# Altium schematic symbol library Schlib1.SchLib: 1 symbol
Pins are listed as number, name and electrical type; pins without a type are passive.

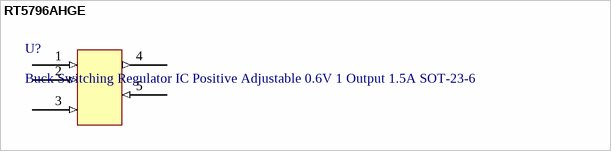
[diagram p0: symbol RT5796AHGE]

## RT5796AHGE
designator U?, comment Buck Switching Regulator IC Positive Adjustable 0.6V 1 Output 1.5A SOT-23-6
pins: 1 (in), 2 (in), 3 (in), 4 (out), 5 (in)